# Altium footprint library SOIC.PcbLib: 3 footprints
Each footprint in its own frame and in the unit in brackets; x right, y up, seen from the top. Pads: shape width x height; smd on the part's side, far side on the other; paste and mask are expansions set on the pad; w line width, h text height; cw(c..) or ccw(c..) is an arc to the next point about the centre after c.
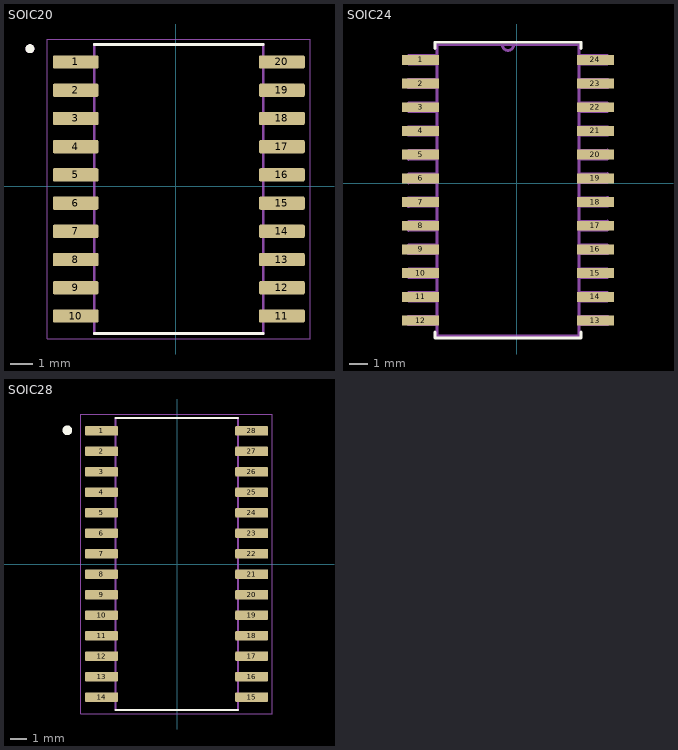
[diagram p0: the footprints below, top view; thin cyan lines are the x and y axes]

## SOIC20 [mm]
pads (20):
  rrect25% 2.06x0.6 smd: 1(-4.504,5.597) 2(-4.504,4.327) 3(-4.504,3.057) 4(-4.504,1.787) 5(-4.504,0.517) 6(-4.504,-0.753) 7(-4.504,-2.023) 8(-4.504,-3.293) 9(-4.504,-4.563) 10(-4.504,-5.833) 11(4.776,-5.833) 12(4.776,-4.563) 13(4.776,-3.293) 14(4.776,-2.023) 15(4.776,-0.753) 16(4.776,0.517) 17(4.776,1.787) 18(4.776,3.057) 19(4.776,4.327) 20(4.776,5.597)
Top Overlay:
  circle w0.2: c-6.564,6.197 r0.1
  lines w0.127: -3.664,-6.618 3.936,-6.618 ; -3.664,6.382 3.936,6.382
Mechanical 13:
  circle w0.2: c-6.564,6.197 r0.1
  lines w0.127: -3.664,-6.618 3.936,-6.618 3.936,6.382 -3.664,6.382 -3.664,-6.618
Mechanical 15:
  lines w0.05: -5.784,-6.868 6.056,-6.868 6.056,6.632 -5.784,6.632 -5.784,-6.868
3D body "SN74AHC244DW.STEP": height 2.65, standoff 0, extent -5.054,-6.497 5.246,6.303

## SOIC24 [mil] "SON, 8-Leads, Body 5.00x6.00mm, Pitch 1.27mm, Thermal Pad 3.40x4.30mm, IPC High Density"
height 29.53
pads (24):
  rect 78x21 smd: 1(-203.1,260.09) 2(-203.1,210.09) 3(-203.1,160.09) 4(-203.1,110.09) 5(-203.1,60.09) 6(-203.1,10.09) 7(-203.1,-39.91) 8(-203.1,-89.91) 9(-203.1,-139.91) 10(-203.1,-189.91) 11(-203.1,-239.91) 12(-203.1,-289.91) 13(165.9,-289.91) 14(165.9,-239.91) 15(165.9,-189.91) 16(165.9,-139.91) 17(165.9,-89.91) 18(165.9,-39.91) 19(165.9,10.09) 20(165.9,60.09) 21(165.9,110.09) 22(165.9,160.09) 23(165.9,210.09) 24(165.9,260.09)
Top Overlay:
  lines w6: -172.6,-313.91 -172.6,-326.91 135.4,-326.91 135.4,-313.91 ; -172.6,284.09 -172.6,297.09 135.4,297.09 135.4,284.09
Mechanical 13:
  lines w6: -30.6,292.09 ccw(c-18.6,292.09) -6.6,292.09 ; -30.6,292.09 -168.6,292.09 -168.6,-321.91 131.4,-321.91 131.4,292.09 -6.6,292.09 ; -30.6,292.09 -6.6,292.09 ; -228.6,-298.91 -168.6,-298.91 -168.6,-280.91 -228.6,-280.91 -228.6,-298.91 ; -228.6,-248.91 -168.6,-248.91 -168.6,-230.91 -228.6,-230.91 -228.6,-248.91 ; -228.6,-198.91 -168.6,-198.91 -168.6,-180.91 -228.6,-180.91 -228.6,-198.91 ; -228.6,-148.91 -168.6,-148.91 -168.6,-130.91 -228.6,-130.91 -228.6,-148.91 ; -228.6,-99.91 -168.6,-98.91 -168.6,-80.91 -228.6,-80.91 -228.6,-99.91 ; -228.6,-49.91 -168.6,-48.91 -168.6,-30.91 -228.6,-30.91 -228.6,-49.91 ; -228.6,0.09 -168.6,1.09 -168.6,19.09 -228.6,19.09 -228.6,0.09 ; -228.6,50.09 -168.6,51.09 -168.6,69.09 -228.6,69.09 -228.6,50.09 ; -228.6,101.09 -168.6,101.09 -168.6,119.09 -228.6,119.09 -228.6,101.09 ; -228.6,151.09 -168.6,151.09 -168.6,169.09 -228.6,169.09 -228.6,151.09 ; -228.6,201.09 -168.6,201.09 -168.6,219.09 -228.6,219.09 -228.6,201.09 ; -228.6,251.09 -168.6,251.09 -168.6,269.09 -228.6,269.09 -228.6,251.09 ; 131.4,-298.91 191.4,-298.91 191.4,-280.91 131.4,-280.91 131.4,-298.91 ; 131.4,-248.91 191.4,-248.91 191.4,-230.91 131.4,-230.91 131.4,-248.91 ; 131.4,-198.91 191.4,-198.91 191.4,-180.91 131.4,-180.91 131.4,-198.91 ; 131.4,-148.91 191.4,-148.91 191.4,-130.91 131.4,-130.91 131.4,-148.91 ; 131.4,-98.91 191.4,-98.91 191.4,-79.91 131.4,-80.91 131.4,-98.91 ; 131.4,-48.91 191.4,-48.91 191.4,-29.91 131.4,-30.91 131.4,-48.91 ; 131.4,1.09 191.4,1.09 191.4,20.09 131.4,19.09 131.4,1.09 ; 131.4,51.09 191.4,51.09 191.4,70.09 131.4,69.09 131.4,51.09 ; 131.4,101.09 191.4,101.09 191.4,119.09 131.4,119.09 131.4,101.09 ; 131.4,151.09 191.4,151.09 191.4,169.09 131.4,169.09 131.4,151.09 ; 131.4,201.09 191.4,201.09 191.4,219.09 131.4,219.09 131.4,201.09 ; 131.4,251.09 191.4,251.09 191.4,269.09 131.4,269.09 131.4,251.09
3D body "step_temp.STEP": height 104.33, standoff 0, extent -221.85,-318.06 184.65,288.24

## SOIC28 [mm]
pads (28):
  rrect25% 2.05x0.59 smd: 1(-4.681,8.281) 2(-4.681,7.011) 3(-4.681,5.741) 4(-4.681,4.471) 5(-4.681,3.201) 6(-4.681,1.931) 7(-4.681,0.661) 8(-4.681,-0.609) 9(-4.681,-1.879) 10(-4.681,-3.149) 11(-4.681,-4.419) 12(-4.681,-5.689) 13(-4.681,-6.959) 14(-4.681,-8.229) 15(4.629,-8.229) 16(4.629,-6.959) 17(4.629,-5.689) 18(4.629,-4.419) 19(4.629,-3.149) 20(4.629,-1.879) 21(4.629,-0.609) 22(4.629,0.661) 23(4.629,1.931) 24(4.629,3.201) 25(4.629,4.471) 26(4.629,5.741) 27(4.629,7.011) 28(4.629,8.281)
Top Overlay:
  circle w0.4: c-6.803,8.314 r0.1
  lines w0.127: -3.826,-9.024 3.774,-9.024 ; -3.826,9.076 3.774,9.076
Mechanical 13:
  circle w0.2: c-6.792,8.303 r0.1
  lines w0.127: -3.826,-9.024 -3.826,9.076 3.774,9.076 3.774,-9.024 -3.826,-9.024
Mechanical 15:
  lines w0.05: -5.956,-9.274 -5.956,9.326 5.904,9.326 5.904,-9.274 -5.956,-9.274
3D body "MAX3241ECWI+.STEP": height 2.65, standoff 0, extent -5.18,-8.984 5.145,8.916